# Altium schematic symbol library STMicroelectronics STM32 L0.SchLib: 3 symbols
Pins are listed as number, name and electrical type; pins without a type are passive.

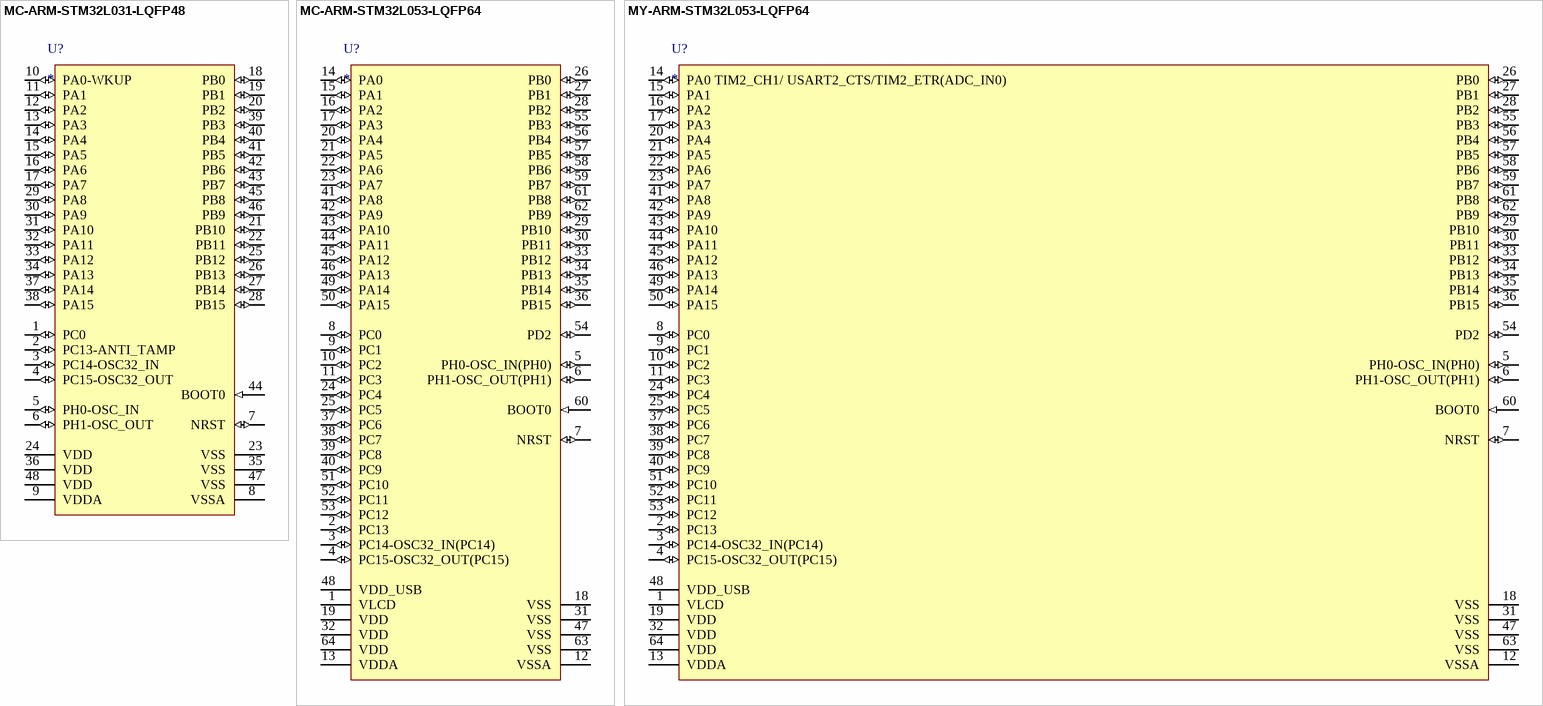
[diagram p0: symbols MC-ARM-STM32L031-LQFP48 to MY-ARM-STM32L053-LQFP64]

## MC-ARM-STM32L031-LQFP48
designator U?
footprint STM-LQFP48_L (QFP, 48-Leads, Body 7x7mm, Pitch 0.5mm, IPC High Density)
footprint STM-LQFP48_M (QFP, 48-Leads, Body 7x7mm, Pitch 0.5mm, IPC Low Density)
footprint STM-LQFP48_N (QFP, 48-Leads, Body 7x7mm, Pitch 0.5mm, IPC Medium Density)
pins: 1 PC0 (io) "PC0/LPTIM1_IN1,EVENTOUT,LPUART1_RX", 2 PC13-ANTI_TAMP (io) "PC13-ANTI_TAMP/TAMP1/WKUP2", 3 PC14-OSC32_IN (io) "PC14/OSC32_IN", 4 PC15-OSC32_OUT (io) "PC15/OSC32_OUT", 5 PH0-OSC_IN (io), 6 PH1-OSC_OUT (io), 7 NRST (io), 8 VSSA (power), 9 VDDA (power), 10 PA0-WKUP (io) "PA0-WKUP/LPTIM1_IN1,TIM2_CH1,USART2_CTS,TIM2_ETR,COMP1_OUT/COMP1_INM6,ADC_IN0,RTC_TAMP2/WKUP1", 11 PA1 (io) "PA1/EVENTOUT,LPTIM1_IN2,TIM2_CH2,I2C1_SMBA,USART2_RTS,TIM21_ETR/COMP1_INP,ADC_IN1", 12 PA2 (io) "PA2/TIM21_CH1,TIM2_CH3,USART2_TX,LPUART1_TX,COMP2_OUT/COMP2_INM6,ADC_IN2,RTC_TAMP3/RTC_TS/RTC_OUT/WKUP3", 13 PA3 (io) "PA3/TIM21_CH2,TIM2_CH4,USART2_RX,LPUART1_RX/COMP2_INP,ADC_IN3", 14 PA4 (io) "PA4/SPI1_NSS,LPTIM1_IN1,USART2_CK,TIM22_ETR/COMP1_INM4,COMP2_INM4,ADC_IN4", 15 PA5 (io) "PA5/SPI1_SCK,LPTIM1_IN2,TIM2_ETR,TIM2_CH1/COMP1_INM5,COMP2_INM5,ADC_IN5", 16 PA6 (io) "PA6/SPI1_MISO,LPTIM1_ETR,LPUART1_CTS,TIM22_CH1,EVENTOUT,COMP1_OUT/ADC_IN6", 17 PA7 (io) "PA7/SPI1_MOSI,LPTIM1_OUT,USART2_CTS,TIM22_CH2,EVENTOUT,COMP2_OUT/ADC_IN7", 18 PB0 (io) "PB0/EVENTOUT,SPI1_MISO,USART2_RTS,TIM2_CH3/ADC_IN8,VREF_OUT", 19 PB1 (io) "PB1/USART2_CK,SPI1_MOSI,LPUART1_RTS,TIM2_CH4/ADC_IN9,VREF_OUT", 20 PB2 (io) "PB2/LPTIM1_OUT", 21 PB10 (io) "PB10/TIM2_CH3,LPUART1_TX", 22 PB11 (io) "PB11/EVENTOUT,TIM2_CH4,LPUART1_RX", 23 VSS (power), 24 VDD (power), 25 PB12 (io) "PB12/SPI1_NSS,EVENTOUT", 26 PB13 (io) "PB13/SPI1_SCK,MCO,TIM21_CH1,LPUART1_CTS", 27 PB14 (io) "PB14/SPI1_MISO,RTC_OUT,TIM21_CH2,LPUART1_RTS", 28 PB15 (io) "PB15/SPI1_MOSI,RTC_REFIN", 29 PA8 (io) "PA8/MCO,LPTIM1_IN1,EVENTOUT,USART2_CK,TIM2_CH1", 30 PA9 (io) "PA9/MCO,I2C1_SCL,USART2_TX,TIM22_CH1", 31 PA10 (io) "PA10/I2C1_SDA,USART2_RX,TIM22_CH2", 32 PA11 (io) "PA11/SPI1_MISO,EVENTOUT,USART2_CTS,TIM21_CH2,COMP1_OUT", 33 PA12 (io) "PA12/SPI1_MOSI,EVENTOUT,USART2_RTS,COMP2_OUT", 34 PA13 (io) "PA13/SWDIO,LPTIM1_ETR,LPUART1_RX", 35 VSS (power), 36 VDD (power), 37 PA14 (io) "PA14/SWCLK,LPTIM1_OUT,I2C1_SMBA,USART2_TX,LPUART1_TX", 38 PA15 (io) "PA15/SPI1_NSS,TIM2_ETR,EVENTOUT,USART2_RX,TIM2_CH1", 39 PB3 (io) "PB3/SPI1_SCK,TIM2_CH2,EVENTOUT/COMP2_INN", 40 PB4 (io) "PB4/SPI1_MISO,EVENTOUT,TIM22_CH1/COMP2_INP", 41 PB5 (io) "PB5/SPI1_MOSI,LPTIM1_IN1,I2C1_SMBA,TIM22_CH2/COMP2_INP", 42 PB6 (io) "PB6/USART2_TX,I2C1_SCL,LPTIM1_ETR,TIM21_CH1/COMP2_INP", 43 PB7 (io) "PB7/USART2_RX,I2C1_SDA,LPTIM1_IN2/COMP2_INP,VREF_PVD_IN", 44 BOOT0 (in), 45 PB8 (io) "PB8/I2C1_SCL", 46 PB9 (io) "PB9/EVENTOUT,I2C1_SDA", 47 VSS (power), 48 VDD (power)

## MC-ARM-STM32L053-LQFP64
designator U?
footprint STM-LQFP64_L (QFP, 64-Leads, Body 10x10mm, Pitch 0.5mm, IPC High Density)
footprint STM-LQFP64_M (QFP, 64-Leads, Body 10x10mm, Pitch 0.5mm, IPC Low Density)
footprint STM-LQFP64_N (QFP, 64-Leads, Body 10x10mm, Pitch 0.5mm, IPC Medium Density)
pins: 1 VLCD (power), 2 PC13 (io) "PC13/RTC_TAMP1/RTC_TS/RTC_OUT/WKUP2", 3 PC14-OSC32_IN(PC14) (io) "PC14-OSC32_IN(PC14)/OSC32_IN", 4 PC15-OSC32_OUT(PC15) (io) "PC15-OSC32_OUT(PC15)/OSC32_OUT", 5 PH0-OSC_IN(PH0) (io) "PH0-OSC_IN(PH0)/USB_CRS_SYNC/OSC_IN", 6 PH1-OSC_OUT(PH1) (io) "PH1-OSC_OUT(PH1)/CSC_OUT", 7 NRST (io), 8 PC0 (io) "PC0/LPTIM1_IN1,LCD_SEG18,EVENTOUT,TSC_G7_IO1/ADC_IN10", 9 PC1 (io) "PC1/LPTIM1_OUT,LCD_SEG19,EVENTOUT,TSC_G7_IO2/ADC_IN11", 10 PC2 (io) "PC2/LPTIM1_IN2,LCD_SEG20,SPI2_MISO/I2S2_MCK,TSC_G7_IO3/ADC_IN12", 11 PC3 (io) "PC3/LPTIM1_ETR,LCD_SEG21,SPI2_MOSI/I2S2_SD,TSC_G7_IO4/ADC_IN13", 12 VSSA (power), 13 VDDA (power), 14 PA0 (io) "PA0/TIM2_CH1,TSC_G1_IO1,USART2_CTS,TIM2_ETR,COMP1_OUT/COMP1_INM6,ADC_IN0,RTC_TAMP2/WKUP1", 15 PA1 (io) "PA1/EVENTOUT,LCD_SEG0,TIM2_CH2,TSC_G1_IO2,USART2_RTS_DE,TIM21_ETR/COMP1_INP,ADC_IN1", 16 PA2 (io) "PA2/TIM21_CH1,LCD_SEG1,TIM2_CH3,TSC_G1_IO3,USART2_TX,COMP2_OUT/COMP2_INM6,ADC_IN2", 17 PA3 (io) "PA3/TIM21_CH2,LCD_SEG2,TIM2_CH4,TSC_G1_IO4,USART2_RX/COMP2_INP,ADC_IN3", 18 VSS (power), 19 VDD (power), 20 PA4 (io) "PA4/SPI1_NSS,TSC_G2_IO1,USART2_CK,TIM22_ETR/COMP1_INM4,COMP2_INM4,ADC_IN4,DAC_OUT", 21 PA5 (io) "PA5/SPI1_SCK,TIM2_ETR,TSC_G2_IO2,TIM2_CH1/COMP1_INM5,COMP2_INM5,ADC_IN5", 22 PA6 (io) "PA6/SPI1_MISO,LCD_SEG3,TSC_G2_IO3,LPUART1_CTS,TIM22_CH1,EVENTOUT,COMP1_OUT/ADC_IN6", 23 PA7 (io) "PA7/SPI1_MOSI,LCD_SEG4,TSC_G2_IO4,TIM22_CH2,EVENTOUT,COMP2_OUT/ADC_IN7", 24 PC4 (io) "PC4/EVENTOUT,LCD_SEG22,LPUART1_TX/ADC_IN14", 25 PC5 (io) "PC5/LCD_SEG23,LPUART1_RX,TSC_G3_IO1/ADC_IN15", 26 PB0 (io) "PB0/EVENTOUT,LCD_SEG5,TSC_G3_IO2/LCD_VLCD3,ADC_IN8,VREF_OUT", 27 PB1 (io) "PB1/LCD_SEG6,TSC_G3_IO3,LPUART1_RTS_DE/ADC_IN9,VREF_OUT", 28 PB2 (io) "PB2/LPTIM1_OUT,TSC_G3_IO4/LCD_VLCD1", 29 PB10 (io) "PB10/LCD_SEG10,TIM2_CH3,TSC_SYNC,LPUART1_TX,SPI2_SCK,I2C2_SCL", 30 PB11 (io) "PB11/EVENTOUT,LCD_SEG11,TIM2_CH4,TSC_G6_IO1,LPUART1_RX,I2C2_SDA", 31 VSS (power), 32 VDD (power), 33 PB12 (io) "PB12/SPI2_NSS/I2S2_WS,LCD_SEG12,LPUART1_RTS_DE,TSC_G6_IO2,I2C2_SMBA,EVENTOUT/LCD_VLCD2", 34 PB13 (io) "PB13/SPI2_SCK/I2S2_CK,LCD_SEG13,TSC_G6_IO3,LPUART1_CTS,I2C2_SCL,TIM21_CH1", 35 PB14 (io) "PB14/SPI2_MISO/I2S2_MCK,LCD_SEG14,RTC_OUT,TSC_G6_IO4,LPUART1_RTS_DE,I2C2_SDA,TIM21_CH2", 36 PB15 (io) "PB15/SPI2_MOSI/I2S2_SD,LCD_SEG15,RTC_REFIN", 37 PC6 (io) "PC6/TIM22_CH1,LCD_SEG24,TSC_G8_IO1", 38 PC7 (io) "PC7/TIM22_CH2,LCD_SEG25,TSC_G8_IO2", 39 PC8 (io) "PC8/TIM22_ETR,LCD_SEG26,TSC_G8_IO3", 40 PC9 (io) "PC9/TIM21_ETR,LCD_SEG27,USB_NOE,TSC_G8_IO4", 41 PA8 (io) "PA8/MCO,LCD_COM0,USB_CRS_SYNC,EVENTOUT,USART1_CK", 42 PA9 (io) "PA9/MCO,LCD_COM1,TSC_G4_IO1,USART1_TX", 43 PA10 (io) "PA10/LCD_COM2,TSC_G4_IO2,USART1_RX", 44 PA11 (io) "PA11/SPI1_MISO,EVENTOUT,TSC_G4_IO3,USART1_CTS,COMP1_OUT/USB_DM", 45 PA12 (io) "PA12/SPI1_MOSI,EVENTOUT,TSC_G4_IO4,USART1_RTS_DE,COMP2_OUT/USB_DP", 46 PA13 (io) "PA13/SWDIO,USB_NOE", 47 VSS (power), 48 VDD_USB (power), 49 PA14 (io) "PA14/SWCLK,USART2_TX", 50 PA15 (io) "PA15/SPI1_NSS,LCD_SEG17,TIM2_ETR,EVENTOUT,USART2_RX,TIM2_CH1", 51 PC10 (io) "PC10/LPUART1_TX,LCD_COM4/LCD_SEG28/LCD_SEG40", 52 PC11 (io) "PC11/LPUART1_RX,LCD_COM5/LCD_SEG29/LCD_SEG41", 53 PC12 (io) "PC12/LCD_COM6/LCD_SEG30/LCD_SEG42", 54 PD2 (io) "PD2/LPUART1_RTS_DE,LCD_COM7/LCD_SEG31/LCD_SEG43", 55 PB3 (io) "PB3/SPI1_SCK,LCD_SEG7,TIM2_CH2,TSC_G5_IO1,EVENTOUT/COMP2_INN", 56 PB4 (io) "PB4/SPI1_MISO,LCD_SEG8,EVENTOUT,TSC_G5_IO2,TIM22_CH1/COMP2_INP", 57 PB5 (io) "PB5/SPI1_MOSI,LCD_SEG9,LPTIM1_IN1,I2C1_SMBA,TIM22_CH2/COMP2_INP", 58 PB6 (io) "PB6/USART1_TX,I2C1_SCL,LPTIM1_ETR,TSC_G5_IO3/COMP2_INP", 59 PB7 (io) "PB7/USART1_RX,I2C1_SDA,LPTIM1_IN2,TSC_G5_IO4/COMP2_INP,PVD_IN", 60 BOOT0 (in), 61 PB8 (io) "PB8/LCD_SEG16,TSC_SYNC,I2C1_SCL", 62 PB9 (io) "PB9/LCD_COM3,EVENTOUT,I2C1_SDA,SPI2_NSS/I2S2_WS", 63 VSS (power), 64 VDD (power)

## MY-ARM-STM32L053-LQFP64
designator U?
footprint STM-LQFP64_L (QFP, 64-Leads, Body 10x10mm, Pitch 0.5mm, IPC High Density)
footprint STM-LQFP64_M (QFP, 64-Leads, Body 10x10mm, Pitch 0.5mm, IPC Low Density)
footprint STM-LQFP64_N (QFP, 64-Leads, Body 10x10mm, Pitch 0.5mm, IPC Medium Density)
pins: 1 VLCD (power), 2 PC13 (io) "PC13/RTC_TAMP1/RTC_TS/RTC_OUT/WKUP2", 3 PC14-OSC32_IN(PC14) (io) "PC14-OSC32_IN(PC14)/OSC32_IN", 4 PC15-OSC32_OUT(PC15) (io) "PC15-OSC32_OUT(PC15)/OSC32_OUT", 5 PH0-OSC_IN(PH0) (io) "PH0-OSC_IN(PH0)/USB_CRS_SYNC/OSC_IN", 6 PH1-OSC_OUT(PH1) (io) "PH1-OSC_OUT(PH1)/CSC_OUT", 7 NRST (io), 8 PC0 (io) "PC0/LPTIM1_IN1,LCD_SEG18,EVENTOUT,TSC_G7_IO1/ADC_IN10", 9 PC1 (io) "PC1/LPTIM1_OUT,LCD_SEG19,EVENTOUT,TSC_G7_IO2/ADC_IN11", 10 PC2 (io) "PC2/LPTIM1_IN2,LCD_SEG20,SPI2_MISO/I2S2_MCK,TSC_G7_IO3/ADC_IN12", 11 PC3 (io) "PC3/LPTIM1_ETR,LCD_SEG21,SPI2_MOSI/I2S2_SD,TSC_G7_IO4/ADC_IN13", 12 VSSA (power), 13 VDDA (power), 14 PA0 TIM2_CH1/ USART2_CTS/TIM2_ETR(ADC_IN0) (io) "PA0/TIM2_CH1,TSC_G1_IO1,USART2_CTS,TIM2_ETR,COMP1_OUT/COMP1_INM6,ADC_IN0,RTC_TAMP2/WKUP1", 15 PA1 (io) "PA1/EVENTOUT,LCD_SEG0,TIM2_CH2,TSC_G1_IO2,USART2_RTS_DE,TIM21_ETR/COMP1_INP,ADC_IN1", 16 PA2 (io) "PA2/TIM21_CH1,LCD_SEG1,TIM2_CH3,TSC_G1_IO3,USART2_TX,COMP2_OUT/COMP2_INM6,ADC_IN2", 17 PA3 (io) "PA3/TIM21_CH2,LCD_SEG2,TIM2_CH4,TSC_G1_IO4,USART2_RX/COMP2_INP,ADC_IN3", 18 VSS (power), 19 VDD (power), 20 PA4 (io) "PA4/SPI1_NSS,TSC_G2_IO1,USART2_CK,TIM22_ETR/COMP1_INM4,COMP2_INM4,ADC_IN4,DAC_OUT", 21 PA5 (io) "PA5/SPI1_SCK,TIM2_ETR,TSC_G2_IO2,TIM2_CH1/COMP1_INM5,COMP2_INM5,ADC_IN5", 22 PA6 (io) "PA6/SPI1_MISO,LCD_SEG3,TSC_G2_IO3,LPUART1_CTS,TIM22_CH1,EVENTOUT,COMP1_OUT/ADC_IN6", 23 PA7 (io) "PA7/SPI1_MOSI,LCD_SEG4,TSC_G2_IO4,TIM22_CH2,EVENTOUT,COMP2_OUT/ADC_IN7", 24 PC4 (io) "PC4/EVENTOUT,LCD_SEG22,LPUART1_TX/ADC_IN14", 25 PC5 (io) "PC5/LCD_SEG23,LPUART1_RX,TSC_G3_IO1/ADC_IN15", 26 PB0 (io) "PB0/EVENTOUT,LCD_SEG5,TSC_G3_IO2/LCD_VLCD3,ADC_IN8,VREF_OUT", 27 PB1 (io) "PB1/LCD_SEG6,TSC_G3_IO3,LPUART1_RTS_DE/ADC_IN9,VREF_OUT", 28 PB2 (io) "PB2/LPTIM1_OUT,TSC_G3_IO4/LCD_VLCD1", 29 PB10 (io) "PB10/LCD_SEG10,TIM2_CH3,TSC_SYNC,LPUART1_TX,SPI2_SCK,I2C2_SCL", 30 PB11 (io) "PB11/EVENTOUT,LCD_SEG11,TIM2_CH4,TSC_G6_IO1,LPUART1_RX,I2C2_SDA", 31 VSS (power), 32 VDD (power), 33 PB12 (io) "PB12/SPI2_NSS/I2S2_WS,LCD_SEG12,LPUART1_RTS_DE,TSC_G6_IO2,I2C2_SMBA,EVENTOUT/LCD_VLCD2", 34 PB13 (io) "PB13/SPI2_SCK/I2S2_CK,LCD_SEG13,TSC_G6_IO3,LPUART1_CTS,I2C2_SCL,TIM21_CH1", 35 PB14 (io) "PB14/SPI2_MISO/I2S2_MCK,LCD_SEG14,RTC_OUT,TSC_G6_IO4,LPUART1_RTS_DE,I2C2_SDA,TIM21_CH2", 36 PB15 (io) "PB15/SPI2_MOSI/I2S2_SD,LCD_SEG15,RTC_REFIN", 37 PC6 (io) "PC6/TIM22_CH1,LCD_SEG24,TSC_G8_IO1", 38 PC7 (io) "PC7/TIM22_CH2,LCD_SEG25,TSC_G8_IO2", 39 PC8 (io) "PC8/TIM22_ETR,LCD_SEG26,TSC_G8_IO3", 40 PC9 (io) "PC9/TIM21_ETR,LCD_SEG27,USB_NOE,TSC_G8_IO4", 41 PA8 (io) "PA8/MCO,LCD_COM0,USB_CRS_SYNC,EVENTOUT,USART1_CK", 42 PA9 (io) "PA9/MCO,LCD_COM1,TSC_G4_IO1,USART1_TX", 43 PA10 (io) "PA10/LCD_COM2,TSC_G4_IO2,USART1_RX", 44 PA11 (io) "PA11/SPI1_MISO,EVENTOUT,TSC_G4_IO3,USART1_CTS,COMP1_OUT/USB_DM", 45 PA12 (io) "PA12/SPI1_MOSI,EVENTOUT,TSC_G4_IO4,USART1_RTS_DE,COMP2_OUT/USB_DP", 46 PA13 (io) "PA13/SWDIO,USB_NOE", 47 VSS (power), 48 VDD_USB (power), 49 PA14 (io) "PA14/SWCLK,USART2_TX", 50 PA15 (io) "PA15/SPI1_NSS,LCD_SEG17,TIM2_ETR,EVENTOUT,USART2_RX,TIM2_CH1", 51 PC10 (io) "PC10/LPUART1_TX,LCD_COM4/LCD_SEG28/LCD_SEG40", 52 PC11 (io) "PC11/LPUART1_RX,LCD_COM5/LCD_SEG29/LCD_SEG41", 53 PC12 (io) "PC12/LCD_COM6/LCD_SEG30/LCD_SEG42", 54 PD2 (io) "PD2/LPUART1_RTS_DE,LCD_COM7/LCD_SEG31/LCD_SEG43", 55 PB3 (io) "PB3/SPI1_SCK,LCD_SEG7,TIM2_CH2,TSC_G5_IO1,EVENTOUT/COMP2_INN", 56 PB4 (io) "PB4/SPI1_MISO,LCD_SEG8,EVENTOUT,TSC_G5_IO2,TIM22_CH1/COMP2_INP", 57 PB5 (io) "PB5/SPI1_MOSI,LCD_SEG9,LPTIM1_IN1,I2C1_SMBA,TIM22_CH2/COMP2_INP", 58 PB6 (io) "PB6/USART1_TX,I2C1_SCL,LPTIM1_ETR,TSC_G5_IO3/COMP2_INP", 59 PB7 (io) "PB7/USART1_RX,I2C1_SDA,LPTIM1_IN2,TSC_G5_IO4/COMP2_INP,PVD_IN", 60 BOOT0 (in), 61 PB8 (io) "PB8/LCD_SEG16,TSC_SYNC,I2C1_SCL", 62 PB9 (io) "PB9/LCD_COM3,EVENTOUT,I2C1_SDA,SPI2_NSS/I2S2_WS", 63 VSS (power), 64 VDD (power)